# EAGLE library part HDR_1X13 (library bleHAT)
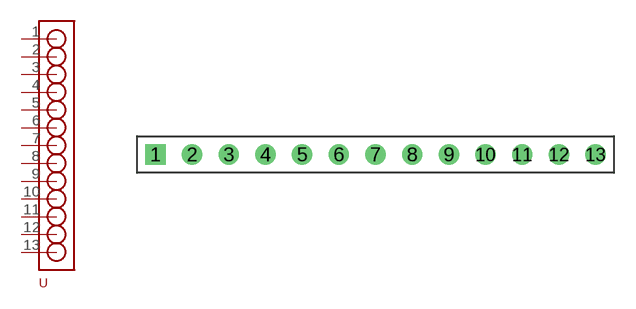
[diagram p4: symbol with the pads of HDR_1X13; footprint HDR_1X13]

Designator prefix -

## HDR_1X13  [HDR_1X13]
1  P$1
2  P$2
3  P$3
4  P$4
5  P$5
6  P$6
7  P$7
8  P$8
9  P$9
10  P$10
11  P$11
12  P$12
13  P$13

## Footprint HDR_1X13 (pad centres in mm)
drill 0.9 square: 1 -15.24,0
drill 0.9: 2 -12.7,0; 3 -10.16,0; 4 -7.62,0; 5 -5.08,0; 6 -2.54,0; 7 0,0; 8 2.54,0; 9 5.08,0; 10 7.62,0; 11 10.16,0; 12 12.7,0; 13 15.24,0